# EAGLE library part MAX3218 (library ulf)
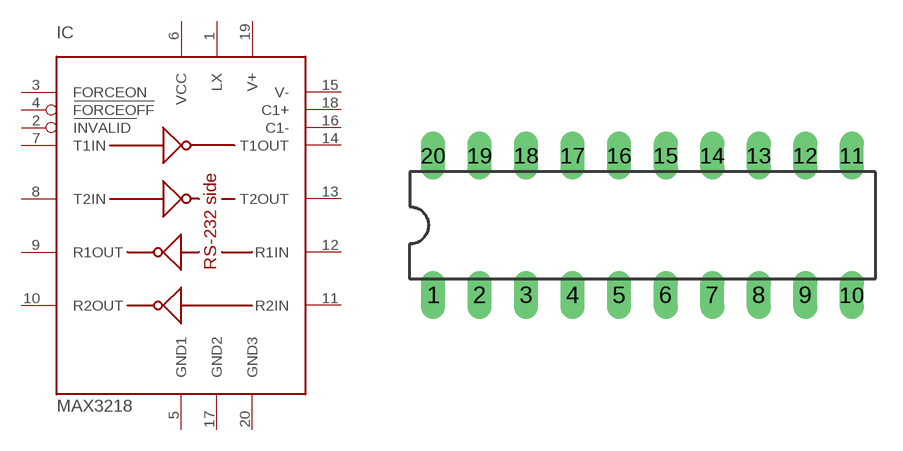
[diagram p0: symbol with the pads of DIL20; footprint DIL20]

Designator prefix IC

## MAX3218  [DIL20]
1  LX
2  INVALID  out
3  FORCEON  in
4  FORCEOFF  in
5  GND1  pwr
6  VCC  pwr
7  T1IN  in
8  T2IN  in
9  R1OUT  out
10  R2OUT  out
11  R2IN  in
12  R1IN  in
13  T2OUT  out
14  T1OUT  out
15  V-
16  C1-
17  GND2  pwr
18  C1+
19  V+
20  GND3  pwr

## Footprint DIL20 (pad centres in mm)
Dual In Line Package
drill 0.813 long: 1 -11.43,-3.81; 2 -8.89,-3.81; 3 -6.35,-3.81; 4 -3.81,-3.81; 5 -1.27,-3.81; 6 1.27,-3.81; 7 3.81,-3.81; 8 6.35,-3.81; 9 8.89,-3.81; 10 11.43,-3.81; 11 11.43,3.81; 12 8.89,3.81; 13 6.35,3.81; 14 3.81,3.81; 15 1.27,3.81; 16 -1.27,3.81; 17 -3.81,3.81; 18 -6.35,3.81; 19 -8.89,3.81; 20 -11.43,3.81